# EAGLE library part ATMEGAXX4P (library ATMEL)
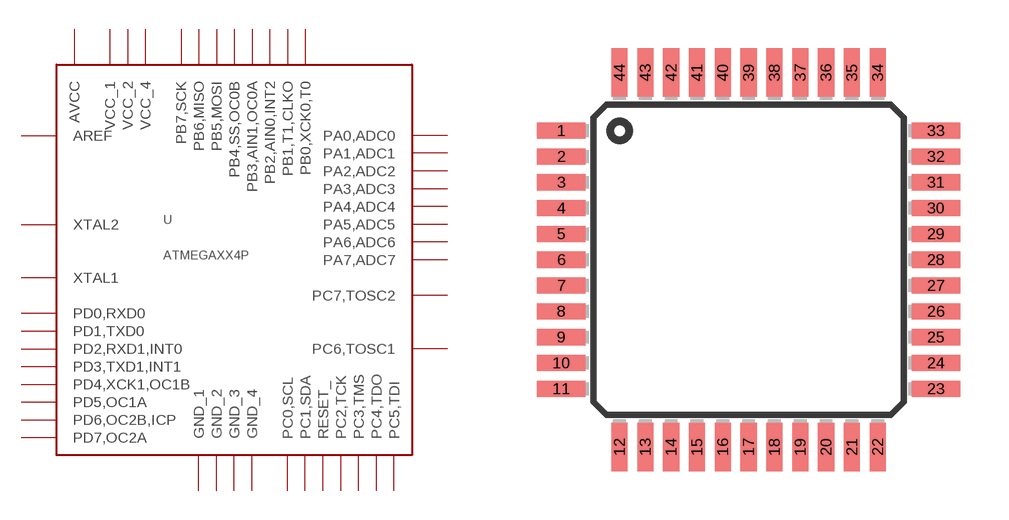
[diagram p0: symbol with the pads of TQFP44; footprint TQFP44]

Designator prefix -

## ATMEGAXX4PAU  [TQFP44]
1  PB5,MOSI
2  PB6,MISO
3  PB7,SCK
4  RESET_  in
5  VCC_1  sup
6  GND_1  sup
7  XTAL2  in
8  XTAL1
9  PD0,RXD0
10  PD1,TXD0
11  PD2,RXD1,INT0
12  PD3,TXD1,INT1
13  PD4,XCK1,OC1B
14  PD5,OC1A
15  PD6,OC2B,ICP
16  PD7,OC2A
17  VCC_2  sup
18  GND_2  sup
19  PC0,SCL
20  PC1,SDA
21  PC2,TCK
22  PC3,TMS
23  PC4,TDO
24  PC5,TDI
25  PC6,TOSC1
26  PC7,TOSC2
27  AVCC  sup
28  GND_3  sup
29  AREF
30  PA7,ADC7
31  PA6,ADC6
32  PA5,ADC5
33  PA4,ADC4
34  PA3,ADC3
35  PA2,ADC2
36  PA1,ADC1
37  PA0,ADC0
38  VCC_4  sup
39  GND_4  sup
40  PB0,XCK0,T0
41  PB1,T1,CLKO
42  PB2,AIN0,INT2
43  PB3,AIN1,OC0A
44  PB4,SS,OC0B

## Footprint TQFP44 (pad centres in mm)
Thin Quad Flat Pack
smd 1.5 x 0.5: 1 -5.8,4; 2 -5.8,3.2; 3 -5.8,2.4; 4 -5.8,1.6; 5 -5.8,0.8; 6 -5.8,0; 7 -5.8,-0.8; 8 -5.8,-1.6; 9 -5.8,-2.4; 10 -5.8,-3.2; 11 -5.8,-4; 23 5.8,-4; 24 5.8,-3.2; 25 5.8,-2.4; 26 5.8,-1.6; 27 5.8,-0.8; 28 5.8,0; 29 5.8,0.8; 30 5.8,1.6; 31 5.8,2.4; 32 5.8,3.2; 33 5.8,4
smd 0.5 x 1.5: 12 -4,-5.8; 13 -3.2,-5.8; 14 -2.4,-5.8; 15 -1.6,-5.8; 16 -0.8,-5.8; 17 0,-5.8; 18 0.8,-5.8; 19 1.6,-5.8; 20 2.4,-5.8; 21 3.2,-5.8; 22 4,-5.8; 34 4,5.8; 35 3.2,5.8; 36 2.4,5.8; 37 1.6,5.8; 38 0.8,5.8; 39 0,5.8; 40 -0.8,5.8; 41 -1.6,5.8; 42 -2.4,5.8; 43 -3.2,5.8; 44 -4,5.8